# Altium footprint library CRCW06031K20FKEA.PcbLib: 1 footprints
Each footprint in its own frame and in the unit in brackets; x right, y up, seen from the top. Pads: shape width x height; smd on the part's side, far side on the other; paste and mask are expansions set on the pad; w line width, h text height; cw(c..) or ccw(c..) is an arc to the next point about the centre after c.
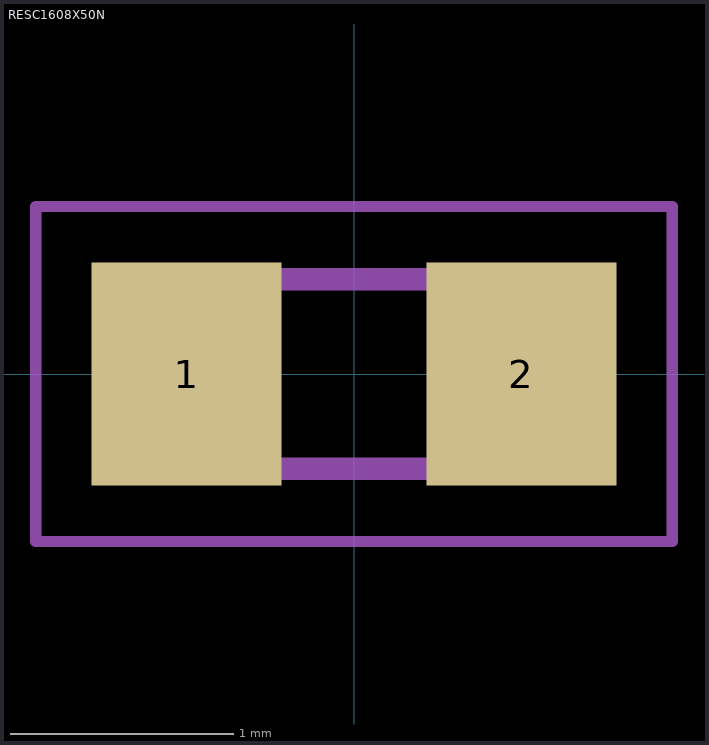
[diagram p0: the footprint, top view; thin cyan lines are the x and y axes]

## RESC1608X50N [mm]
pads (2):
  rect 0.85x1 smd: 1(-0.75,0) 2(0.75,0)
Mechanical 15:
  lines w0.1: -0.788,-0.425 0.788,-0.425 0.788,0.425 -0.788,0.425 -0.788,-0.425
Mechanical 20:
  lines w0.05: -1.425,-0.75 1.425,-0.75 1.425,0.75 -1.425,0.75 -1.425,-0.75